# Altium footprint library K78xxT-1000R3.PcbLib: 1 footprints
Each footprint in its own frame and in the unit in brackets; x right, y up, seen from the top. Pads: shape width x height; smd on the part's side, far side on the other; paste and mask are expansions set on the pad; w line width, h text height; cw(c..) or ccw(c..) is an arc to the next point about the centre after c.
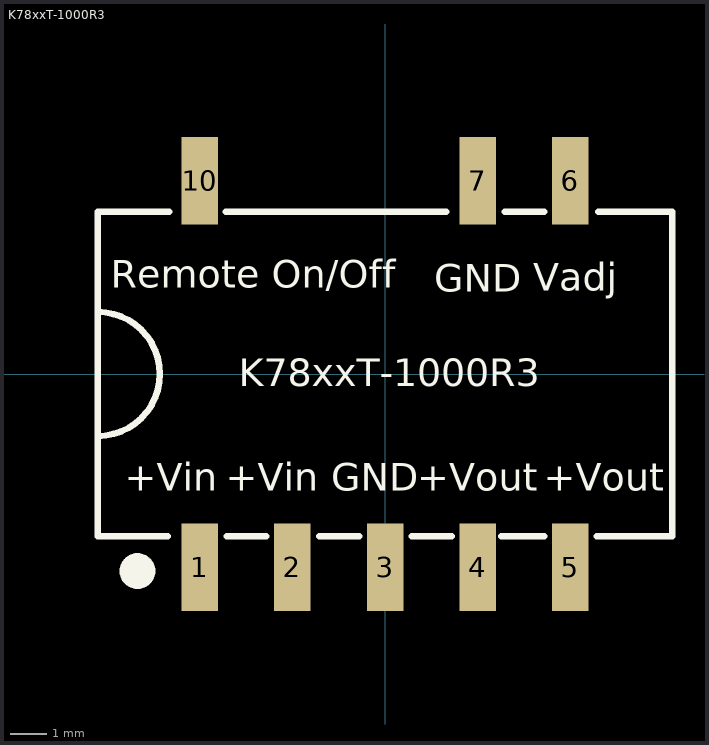
[diagram p0: the footprint, top view; thin cyan lines are the x and y axes]

## K78xxT-1000R3 [mm]
pads (8):
  rect 1x2.4 smd: 1(-5.08,-5.3) 2(-2.54,-5.3) 3(0,-5.3) 4(2.54,-5.3) 5(5.08,-5.3) 6(5.08,5.3) 7(2.54,5.3) 10(-5.08,5.3)
Top Overlay:
  lines w0.178: -7.87,-1.7 ccw(c-7.87,0) -7.87,1.7 ; -5.955,-4.45 -7.87,-4.45 -7.87,4.45 -5.912,4.45 ; -4.369,4.45 -1.65,4.45 1.679,4.45 ; -4.343,-4.45 -3.251,-4.45 ; -1.803,-4.45 -0.711,-4.45 ; 0.737,-4.45 1.829,-4.45 ; 3.189,-4.45 4.369,-4.45 ; 3.277,4.45 4.369,4.45 ; 5.8,-4.45 7.87,-4.45 7.87,4.45 5.842,4.45
  lines w0.508: -6.573,-5.295 ccw(c-6.785,-5.401) -6.549,-5.378
  text "Remote On/Off" at -7.518,2.359 h0.76
  text "GND" at 1.346,2.25 h0.76
  text "Vadj" at 4.064,2.286 h0.76
  text "+Vout" at 4.343,-3.2 h0.76
  text "+Vin" at -4.369,-3.2 h0.76
  text "+Vout" at 0.889,-3.2 h0.76
  text "GND" at -1.473,-3.2 h0.76
  text "+Vin" at -7.137,-3.2 h0.76
  text "K78xxT-1000R3" at -4.013,-0.33 h0.76